# Altium schematic symbol library RIC11-22S15D7-TH.SchLib: 1 symbol
Pins are listed as number, name and electrical type; pins without a type are passive.

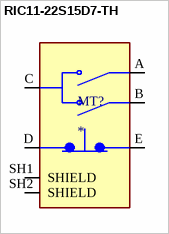
[diagram p0: symbol RIC11-22S15D7-TH]

## RIC11-22S15D7-TH
designator MT?
MP: RIC11-22S15D7-TH; Package: None; Price: None; Value: *; Availability: Unavailable
footprint XDCR_RIC11-22S15D7-TH
pins: A, B, C, D S1, E S2, SH1 SHIELD, SH2 SHIELD